# EAGLE library part CAM_MALE (library cam_male)
Camera sensor connector to raspi camera breakout board
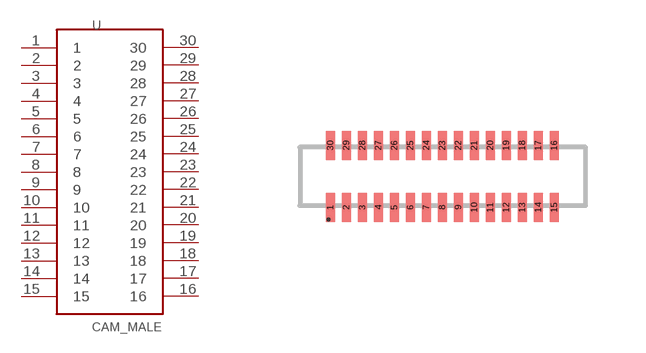
[diagram p0: symbol with the pads of CAM_MALE; footprint CAM_MALE]

Designator prefix U

## CAM_MALE  [CAM_MALE]
1  1
2  2
3  3
4  4
5  5
6  6
7  7
8  8
9  9
10  10
11  11
12  12
13  13
14  14
15  15
16  16
17  17
18  18
19  19
20  20
21  21
22  22
23  23
24  24
25  25
26  26
27  27
28  28
29  29
30  30

## Footprint CAM_MALE (pad centres in mm)
smd 0.23 x 0.73: 1 -2.8,-0.775; 2 -2.4,-0.775; 3 -2,-0.775; 4 -1.6,-0.775; 5 -1.2,-0.775; 6 -0.8,-0.775; 7 -0.4,-0.775; 8 0,-0.775; 9 0.4,-0.775; 10 0.8,-0.775; 11 1.2,-0.775; 12 1.6,-0.775; 13 2,-0.775; 14 2.4,-0.775; 15 2.8,-0.775; 16 2.8,0.775; 17 2.4,0.775; 18 2,0.775; 19 1.6,0.775; 20 1.2,0.775; 21 0.8,0.775; 22 0.4,0.775; 23 0,0.775; 24 -0.4,0.775; 25 -0.8,0.775; 26 -1.2,0.775; 27 -1.6,0.775; 28 -2,0.775; 29 -2.4,0.775; 30 -2.8,0.775